# EAGLE library part SWITCH-DPDT (library iStivi - Button-Switch)
DPDT Switch
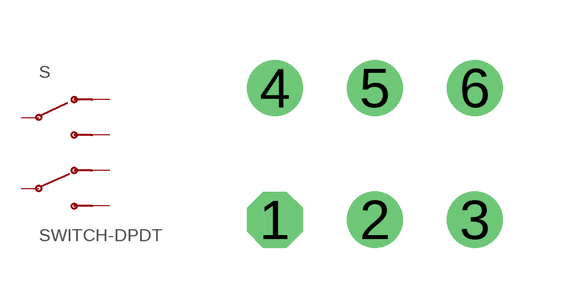
[diagram p0: symbol with the pads of JS202011; footprint JS202011]

Designator prefix S

## SWITCH-DPDTJS202011  [JS202011]
1  1
2  2
3  3
4  4
5  5
6  6

## Footprint JS202011 (pad centres in mm)
C&K JS202011 DPDT
drill 0.9 octagon: 1 -2.5,-1.65
drill 0.9: 2 0,-1.65; 3 2.5,-1.65; 4 -2.5,1.65; 5 0,1.65; 6 2.5,1.65